# Altium footprint library DIP_5.1.PcbLib: 1 footprints
Each footprint in its own frame and in the unit in brackets; x right, y up, seen from the top. Pads: shape width x height; smd on the part's side, far side on the other; paste and mask are expansions set on the pad; w line width, h text height; cw(c..) or ccw(c..) is an arc to the next point about the centre after c.
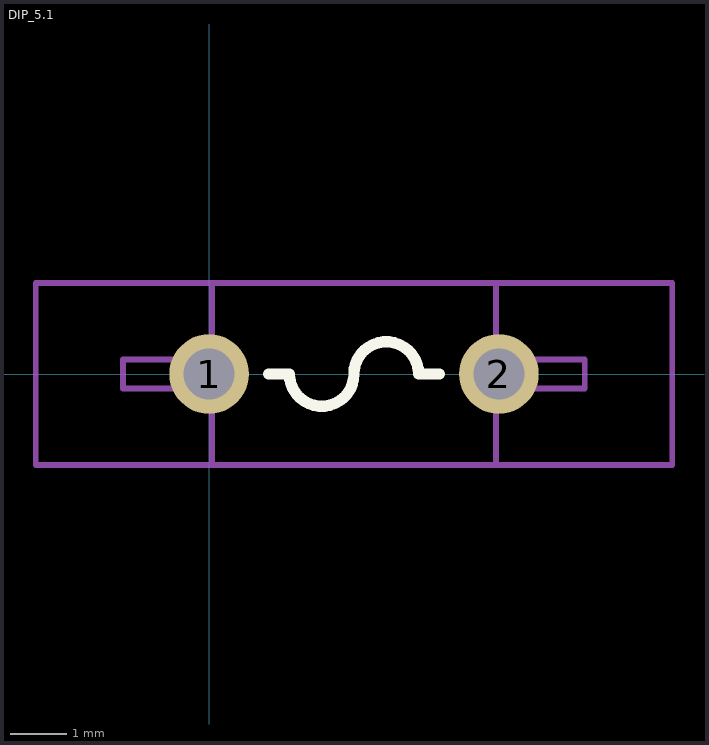
[diagram p0: the footprint, top view; thin cyan lines are the x and y axes]

## DIP_5.1 [mm] "Pitch5.1mm High40mm"
height 40
pads (2):
  round 1.4 hole 0.9: 1(0,0) 2(5.1,0)
Top Overlay:
  lines w0.2: 1.05,0 1.414,0 ccw(c1.982,0) 2.55,0 cw(c3.118,0) 3.686,0 4.05,0
Mechanical 13:
  lines w0.1: -1.514,-0.254 -1.514,0.254 0.05,0.254 0.05,1.6 5.05,1.6 5.05,0.254 6.614,0.254 6.614,-0.254 5.05,-0.254 5.05,-1.6 0.05,-1.6 0.05,-0.254 -1.514,-0.254
Mechanical 15:
  lines w0.1: -3.049,-1.6 -3.049,-1.016 -3.049,1.016 -3.049,1.6 -2.465,1.6 7.249,1.6 8.15,1.6 8.15,1 8.15,-1.032 8.15,-1.6 7.249,-1.6 -2.149,-1.6 -3.049,-1.6
3D body: height 18.8, standoff -2, extent -3.042,-1.498 8.174,1.497